# Altium footprint library SMAF_L3.5-W2.6-LS4.7-FD.PcbLib: 1 footprints
Each footprint in its own frame and in the unit in brackets; x right, y up, seen from the top. Pads: shape width x height; smd on the part's side, far side on the other; paste and mask are expansions set on the pad; w line width, h text height; cw(c..) or ccw(c..) is an arc to the next point about the centre after c.
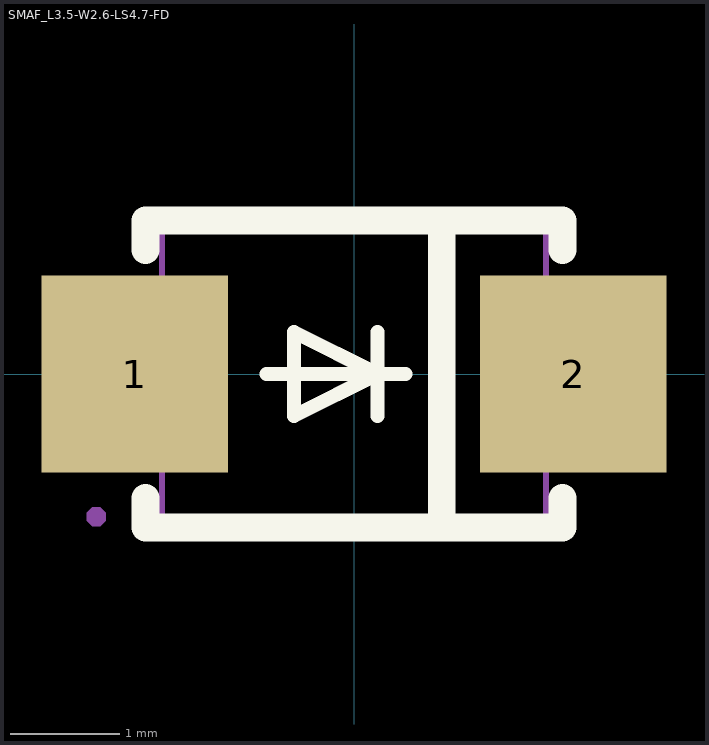
[diagram p0: the footprint, top view; thin cyan lines are the x and y axes]

## SMAF_L3.5-W2.6-LS4.7-FD [mm]
pads (2):
  rect 1.7x1.8 smd: 1(-2,0) 2(2,0)
Top Overlay:
  lines w0.127: -0.8,0 0.47,0 ; 0.216,-0.381 0.216,0 ; 0.216,0.381 0.216,0 ; 0.216,0 -0.546,-0.381 -0.546,0 -0.546,0.381 0.216,0
  lines w0.254: -1.9,-1.131 -1.9,-1.4 1.9,-1.4 1.9,-1.131 ; -1.9,1.131 -1.9,1.4 1.9,1.4 1.9,1.131 ; 0.8,-1.25 0.8,1.25
Mechanical 6:
  region: -2.6,0.1 -1.2,0.1 -1.2,-0.1 -2.6,-0.1
  region: -2,-0.7 -2,0.7 -1.8,0.7 -1.8,-0.7
  region: 1.2,0.1 2.6,0.1 2.6,-0.1 1.2,-0.1
Mechanical 15:
  region: -2.264,-1.3 -2.264,-1.264 -2.314,-1.214 -2.386,-1.214 -2.436,-1.264 -2.436,-1.3 -2.436,-1.336 -2.386,-1.386 -2.315,-1.386 -2.264,-1.336 -2.264,-1.3
  region: 2.35,-0.75 1.5,-0.75 1.5,0.75 2.35,0.75
  region: -2.35,0.75 -1.5,0.75 -1.5,-0.75 -2.35,-0.75
  lines w0.051: -1.75,-1.3 1.75,-1.3 1.75,1.3 -1.75,1.3 -1.75,-1.3